# Altium schematic symbol library Shunt_Res_Ohmite_LVK20R100CER.SchLib: 2 symbols
Pins are listed as number, name and electrical type; pins without a type are passive.

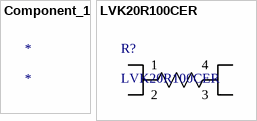
[diagram p0: symbols Component_1 to LVK20R100CER]

## Component_1
designator *

## LVK20R100CER
designator R?
Current Sense Resistors - SMD .1 OHM.25% 3/4W; Vendor: Ohmite; Built_By: EMA_UL_Team; SourceLibrary: Ohmite_2014-12-31; Manufacturer_Part_Number: LVK20R100CER; Copyright: Copyright (C) 2018 Accelerated Designs. All rights reserved; RefDes: RefDes; Type: DEV
footprint OH_LVK20_OHM
pins: 1, 2, 3, 4